# Altium footprint library SparkFun-IC-Power.PCBLIB: 41 footprints (part 2 of 3)
Each footprint in its own frame and in the unit in brackets; x right, y up, seen from the top. Pads: shape width x height; smd on the part's side, far side on the other; paste and mask are expansions set on the pad; w line width, h text height; cw(c..) or ccw(c..) is an arc to the next point about the centre after c.
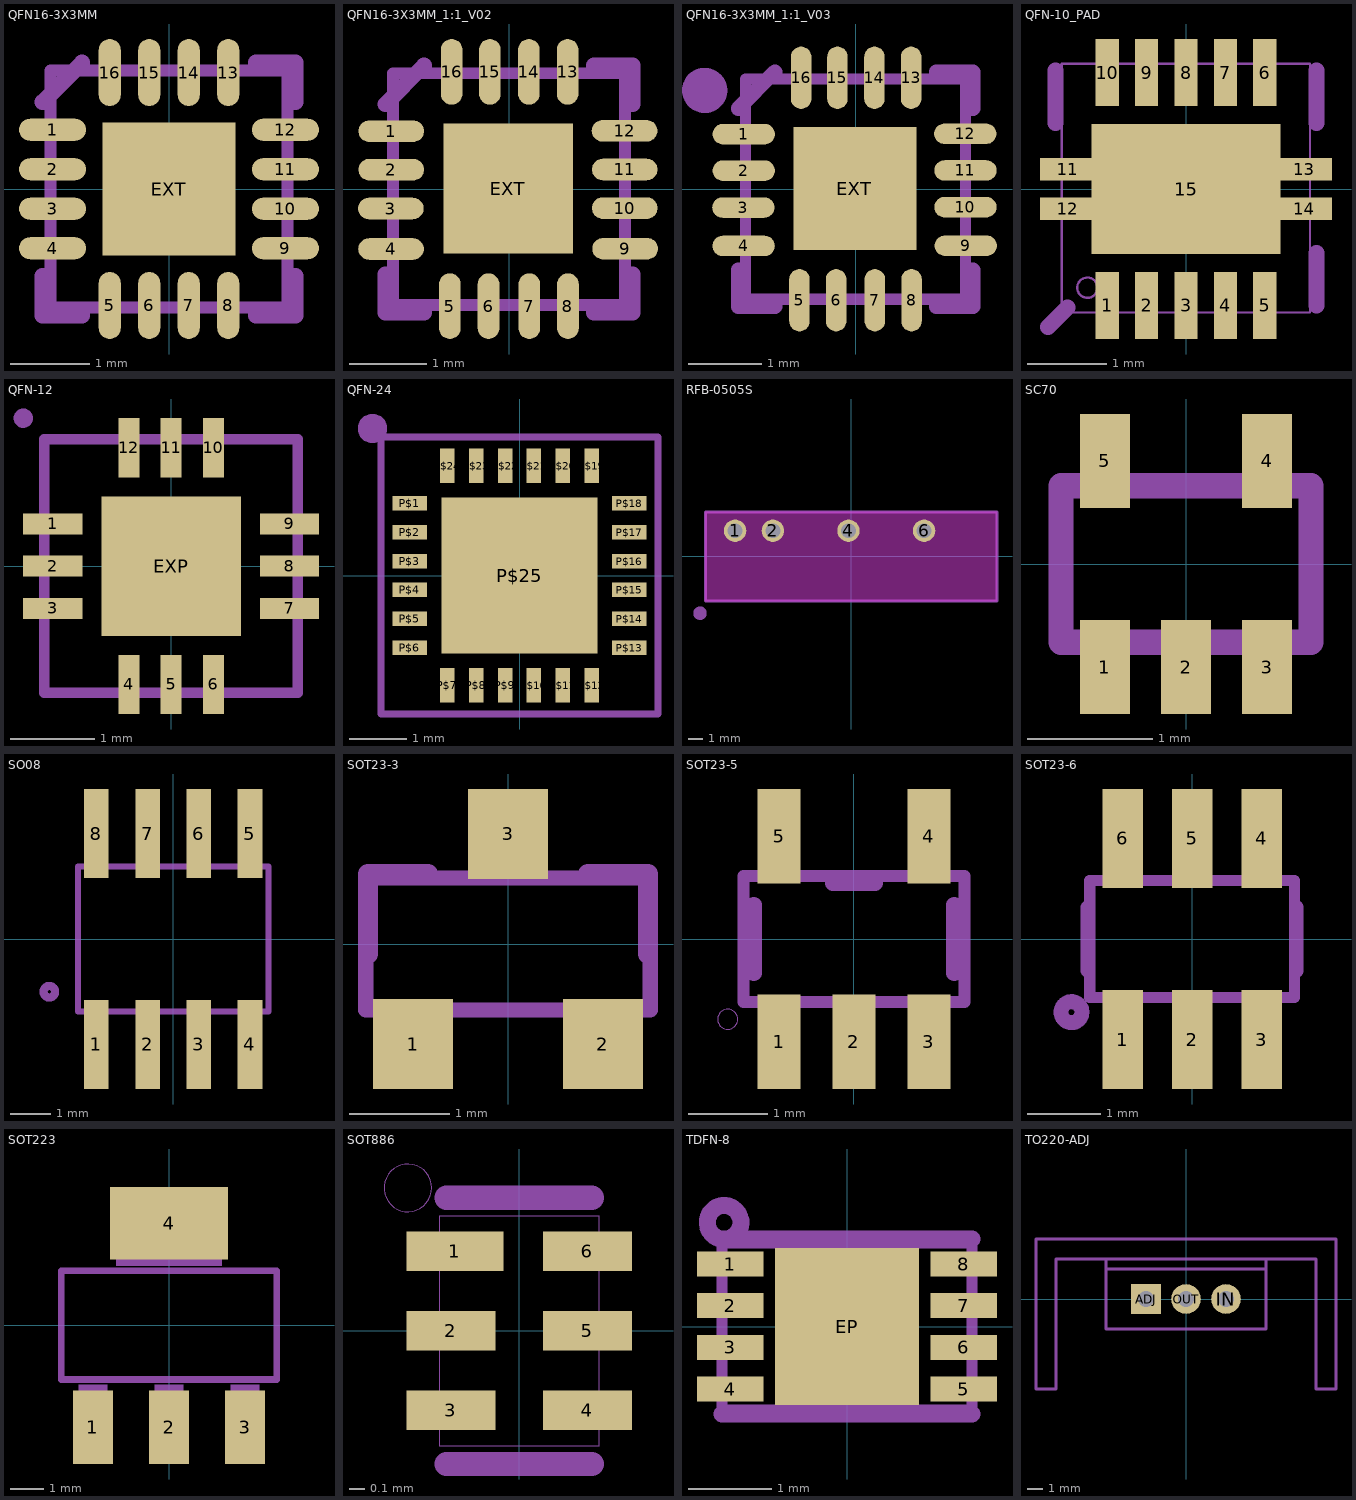
[diagram p1: the footprints below, top view; thin cyan lines are the x and y axes]

## QFN16-3X3MM [mm]
pads (17):
  rrect100% 0.85x0.28 smd paste+0: 1(-1.475,0.75) 2(-1.475,0.25) 3(-1.475,-0.25) 4(-1.475,-0.75) 9(1.475,-0.75) 10(1.475,-0.25) 11(1.475,0.25) 12(1.475,0.75)
  rrect100% 0.28x0.85 smd paste+0: 5(-0.75,-1.475) 6(-0.25,-1.475) 7(0.25,-1.475) 8(0.75,-1.475) 13(0.75,1.475) 14(0.25,1.475) 15(-0.25,1.475) 16(-0.75,1.475)
  rect 1.68x1.68 smd paste+0: EXT(0,0)
Top Paste:
  region: -0.6,0.15 -0.6,0.6 -0.15,0.6 -0.15,0.15
  region: 0.15,0.15 0.15,0.6 0.6,0.6 0.6,0.15
  region: 0.15,-0.6 0.15,-0.15 0.6,-0.15 0.6,-0.6
  region: -0.6,-0.6 -0.6,-0.15 -0.15,-0.15 -0.15,-0.6
  lines w0.203: -1.8,-0.75 -1.15,-0.75 ; -1.8,-0.25 -1.15,-0.25 ; -1.8,0.25 -1.15,0.25 ; -1.8,0.75 -1.15,0.75 ; -0.75,-1.8 -0.75,-1.15 ; -0.75,1.15 -0.75,1.8 ; -0.25,-1.8 -0.25,-1.15 ; -0.25,1.15 -0.25,1.8 ; 0.25,-1.8 0.25,-1.15 ; 0.25,1.15 0.25,1.8 ; 0.75,-1.8 0.75,-1.15 ; 0.75,1.15 0.75,1.8 ; 1.15,-0.75 1.8,-0.75 ; 1.15,-0.25 1.8,-0.25 ; 1.15,0.25 1.8,0.25 ; 1.15,0.75 1.8,0.75
tDocu:
  lines w0.152: -1.5,-1.5 -1.5,1.5 1.5,1.5 1.5,-1.5 -1.5,-1.5
tPlace:
  lines w0.203: -1.6,-1.1 -1.6,-1.6 -1.1,-1.6 ; -1.6,1.1 -1.1,1.6 ; 1.1,-1.6 1.6,-1.6 1.6,-1.1 ; 1.1,1.6 1.6,1.6 1.6,1.1

## QFN16-3X3MM_1:1_V02 [mm]
pads (17):
  rrect100% 0.85x0.28 smd paste+0: 1(-1.524,0.75) 2(-1.524,0.252) 3(-1.529,-0.25) 4(-1.527,-0.774) 9(1.503,-0.77) 10(1.498,-0.245) 11(1.498,0.255) 12(1.495,0.755)
  rrect100% 0.28x0.85 smd paste+0: 5(-0.765,-1.513) 6(-0.265,-1.513) 7(0.263,-1.513) 8(0.763,-1.513) 13(0.758,1.518) 14(0.258,1.518) 15(-0.247,1.518) 16(-0.742,1.518)
  rect 1.68x1.68 smd paste+0: EXT(-0.009,0.008)
Top Paste:
  region: -0.6,0.15 -0.6,0.6 -0.15,0.6 -0.15,0.15
  region: 0.15,0.15 0.15,0.6 0.6,0.6 0.6,0.15
  region: 0.15,-0.6 0.15,-0.15 0.6,-0.15 0.6,-0.6
  region: -0.6,-0.6 -0.6,-0.15 -0.15,-0.15 -0.15,-0.6
  lines w0.203: -1.853,-0.773 -1.203,-0.773 ; -1.853,-0.25 -1.203,-0.25 ; -1.851,0.252 -1.201,0.252 ; -1.85,0.751 -1.2,0.751 ; -0.765,-1.838 -0.765,-1.188 ; -0.742,1.193 -0.742,1.843 ; -0.265,-1.838 -0.265,-1.188 ; -0.247,1.196 -0.247,1.846 ; 0.258,1.196 0.258,1.846 ; 0.26,-1.838 0.26,-1.188 ; 0.758,1.193 0.758,1.843 ; 0.763,-1.841 0.763,-1.191 ; 1.17,-0.245 1.82,-0.245 ; 1.17,0.255 1.82,0.255 ; 1.173,0.755 1.818,0.755 ; 1.178,-0.768 1.828,-0.768
tDocu:
  lines w0.152: -1.5,-1.5 -1.5,1.5 1.5,1.5 1.5,-1.5 -1.5,-1.5
tPlace:
  lines w0.203: -1.6,-1.1 -1.6,-1.6 -1.1,-1.6 ; -1.6,1.1 -1.1,1.6 ; 1.1,-1.6 1.6,-1.6 1.6,-1.1 ; 1.1,1.6 1.6,1.6 1.6,1.1

## QFN16-3X3MM_1:1_V03 [mm]
pads (17):
  rrect100% 0.85x0.28 smd paste+0: 1(-1.524,0.75) 2(-1.524,0.252) 3(-1.529,-0.25) 4(-1.527,-0.774) 9(1.503,-0.77) 10(1.498,-0.245) 11(1.498,0.255) 12(1.495,0.755)
  rrect100% 0.28x0.85 smd paste+0: 5(-0.765,-1.513) 6(-0.265,-1.513) 7(0.263,-1.513) 8(0.763,-1.513) 13(0.758,1.518) 14(0.258,1.518) 15(-0.247,1.518) 16(-0.742,1.518)
  rect 1.68x1.68 smd paste+0: EXT(-0.009,0.008)
Top Paste:
  region: -0.305,-0.305 -0.305,0.279 0.279,0.279 0.279,-0.305
  lines w0.203: -1.853,-0.773 -1.407,-0.773 ; -1.853,-0.25 -1.406,-0.25 ; -1.851,0.252 -1.404,0.252 ; -1.85,0.751 -1.403,0.751 ; -0.765,-1.838 -0.765,-1.391 ; -0.742,1.396 -0.742,1.843 ; -0.265,-1.838 -0.265,-1.391 ; -0.247,1.399 -0.247,1.846 ; 0.258,1.399 0.258,1.846 ; 0.26,-1.838 0.26,-1.391 ; 0.758,1.396 0.758,1.843 ; 0.763,-1.841 0.763,-1.394 ; 1.399,-0.245 1.82,-0.245 ; 1.399,0.255 1.82,0.255 ; 1.402,0.755 1.818,0.755 ; 1.407,-0.768 1.828,-0.768
tDocu:
  lines w0.152: -1.5,-1.5 -1.5,1.5 1.5,1.5 1.5,-1.5 -1.5,-1.5
tPlace:
  circle w0.406: c-2.057,1.346 r0.105
  lines w0.203: -1.6,-1.1 -1.6,-1.6 -1.1,-1.6 ; -1.6,1.1 -1.1,1.6 ; 1.1,-1.6 1.6,-1.6 1.6,-1.1 ; 1.1,1.6 1.6,1.6 1.6,1.1

## QFN-10_PAD [mm]
pads (15):
  rect 0.297x0.85 smd paste+0: 1(-1,-1.475) 2(-0.5,-1.475) 3(0,-1.475) 4(0.5,-1.475) 5(1,-1.475) 6(1,1.475) 7(0.5,1.475) 8(0,1.475) 9(-0.5,1.475) 10(-1,1.475)
  rect 0.7x0.28 smd: 11(-1.5,0.25) 12(-1.5,-0.25) 13(1.5,0.25) 14(1.5,-0.25)
  rect 2.4x1.65 smd paste+0: 15(0,0)
Top Paste:
  region: -1.194,-0.432 -1.194,0.432 1.194,0.432 1.194,-0.432
  region: -1.125,1.074 -1.125,1.88 -0.876,1.88 -0.876,1.074
  region: -0.625,1.072 -0.625,1.877 -0.376,1.877 -0.376,1.072
  region: -0.625,1.072 -0.625,1.877 -0.376,1.877 -0.376,1.072
  region: -0.124,1.069 -0.124,1.875 0.124,1.875 0.124,1.069
  region: 0.376,1.072 0.376,1.877 0.625,1.877 0.625,1.072
  region: 0.879,1.074 0.879,1.88 1.128,1.88 1.128,1.074
  region: -1.125,-1.877 -1.125,-1.072 -0.876,-1.072 -0.876,-1.877
  region: -0.625,-1.88 -0.625,-1.074 -0.376,-1.074 -0.376,-1.88
  region: -0.124,-1.877 -0.124,-1.072 0.124,-1.072 0.124,-1.877
  region: 0.376,-1.872 0.376,-1.067 0.625,-1.067 0.625,-1.872
  region: 0.876,-1.877 0.876,-1.072 1.125,-1.072 1.125,-1.877
tDocu:
  circle w0.03: c-1.25,-1.25 r0.129
  lines w0.03: -1.575,-1.565 1.57,-1.565 1.57,1.585 -1.575,1.585 -1.575,-1.565
tPlace:
  lines w0.203: -1.75,-1.75 -1.5,-1.5 ; -1.651,0.838 -1.651,1.499 ; 1.651,-1.473 1.651,-0.813 ; 1.651,0.838 1.651,1.499

## QFN-12 [mm]
pads (13):
  rect 0.7x0.25 smd: 1(-1.4,0.5) 2(-1.4,0) 3(-1.4,-0.5) 7(1.4,-0.5) 8(1.4,0) 9(1.4,0.5)
  rect 0.25x0.7 smd: 4(-0.5,-1.4) 5(0,-1.4) 6(0.5,-1.4) 10(0.5,1.4) 11(0,1.4) 12(-0.5,1.4)
  rect 1.65x1.65 smd: EXP(0,0)
tPlace:
  circle w0.127: c-1.75,1.75 r0.05
  lines w0.127: -1.5,-1.5 1.5,-1.5 1.5,1.5 -1.5,1.5 -1.5,-1.5

## QFN-24 [mm]
pads (25):
  rect 0.6x0.25 smd paste+0: P$1(-1.9,1.25) P$2(-1.9,0.75) P$3(-1.9,0.25) P$4(-1.9,-0.25) P$5(-1.9,-0.75) P$6(-1.9,-1.25) P$13(1.9,-1.25) P$14(1.9,-0.75) P$15(1.9,-0.25) P$16(1.9,0.25) P$17(1.9,0.75) P$18(1.9,1.25)
  rect 0.25x0.6 smd paste+0: P$7(-1.25,-1.9) P$8(-0.75,-1.9) P$9(-0.25,-1.9) P$10(0.25,-1.9) P$11(0.75,-1.9) P$12(1.25,-1.9) P$19(1.25,1.9) P$20(0.75,1.9) P$21(0.25,1.9) P$22(-0.25,1.9) P$23(-0.75,1.9) P$24(-1.25,1.9)
  rect 2.7x2.7 smd paste+0: P$25(0,0)
Top Paste:
  region: -0.953,0.254 -0.953,1.004 -0.203,1.004 -0.203,0.254
  region: 0.203,0.254 0.203,1.004 0.953,1.004 0.953,0.254
  region: 0.203,-1.004 0.203,-0.254 0.953,-0.254 0.953,-1.004
  region: -0.953,-1.004 -0.953,-0.254 -0.203,-0.254 -0.203,-1.004
  region: -2.1,1.35 -1.7,1.35 -1.7,1.15 -2.1,1.15
  region: -2.1,0.85 -1.7,0.85 -1.7,0.65 -2.1,0.65
  region: -2.1,0.35 -1.7,0.35 -1.7,0.15 -2.1,0.15
  region: -2.1,-0.15 -1.7,-0.15 -1.7,-0.35 -2.1,-0.35
  region: -2.1,-0.65 -1.7,-0.65 -1.7,-0.85 -2.1,-0.85
  region: -2.1,-1.15 -1.7,-1.15 -1.7,-1.35 -2.1,-1.35
  region: -1.35,-2.1 -1.35,-1.7 -1.15,-1.7 -1.15,-2.1
  region: -0.85,-2.1 -0.85,-1.7 -0.65,-1.7 -0.65,-2.1
  region: -0.35,-2.1 -0.35,-1.7 -0.15,-1.7 -0.15,-2.1
  region: 0.15,-2.1 0.15,-1.7 0.35,-1.7 0.35,-2.1
  region: 0.65,-2.1 0.65,-1.7 0.85,-1.7 0.85,-2.1
  region: 1.15,-2.1 1.15,-1.7 1.35,-1.7 1.35,-2.1
  region: 2.1,-1.35 1.7,-1.35 1.7,-1.15 2.1,-1.15
  region: 2.1,-0.85 1.7,-0.85 1.7,-0.65 2.1,-0.65
  region: 2.1,-0.35 1.7,-0.35 1.7,-0.15 2.1,-0.15
  region: 2.1,0.15 1.7,0.15 1.7,0.35 2.1,0.35
  region: 2.1,0.65 1.7,0.65 1.7,0.85 2.1,0.85
  region: 2.1,1.15 1.7,1.15 1.7,1.35 2.1,1.35
  region: 1.35,2.1 1.35,1.7 1.15,1.7 1.15,2.1
  region: 0.85,2.1 0.85,1.7 0.65,1.7 0.65,2.1
  region: 0.35,2.1 0.35,1.7 0.15,1.7 0.15,2.1
  region: -0.15,2.1 -0.15,1.7 -0.35,1.7 -0.35,2.1
  region: -0.65,2.1 -0.65,1.7 -0.85,1.7 -0.85,2.1
  region: -1.15,2.1 -1.15,1.7 -1.35,1.7 -1.35,2.1
tPlace:
  region: -2.8,2.55 -2.8,2.6 -2.762,2.692 -2.692,2.762 -2.6,2.8 -2.55,2.8 -2.5,2.8 -2.408,2.762 -2.338,2.692 -2.3,2.6 -2.3,2.55 -2.3,2.5 -2.338,2.408 -2.408,2.338 -2.5,2.3 -2.55,2.3 -2.6,2.3 -2.692,2.338 -2.762,2.408 -2.8,2.5 -2.8,2.55
  lines w0.127: -2.4,-2.4 2.4,-2.4 2.4,2.4 -2.4,2.4 -2.4,-2.4

## RFB-0505S [mm]
pads (4):
  round 1.508 hole 1: 1(-7.8,1.73) 2(-5.26,1.73) 4(-0.18,1.73) 6(4.9,1.73)
Top keep-out:
  region: -9.8,-3 -9.8,3 9.8,3 9.8,-3
tPlace:
  circle w0.5: c-10.16,-3.81 r0.2
  lines w0.203: -9.8,-3 -9.8,3 9.8,3 9.8,-3 -9.8,-3

## SC70 [mm]
pads (5):
  rect 0.4x0.75 smd paste+0: 1(-0.65,-0.825) 2(0,-0.825) 3(0.65,-0.825) 4(0.65,0.825) 5(-0.65,0.825)
Top Paste:
  region: -0.85,0.45 -0.85,1.2 -0.45,1.2 -0.45,0.45
  region: 0.45,0.45 0.45,1.2 0.85,1.2 0.85,0.45
  region: -0.838,-1.168 -0.838,-0.483 -0.508,-0.483 -0.508,-1.168
  region: -0.165,-1.168 -0.165,-0.483 0.165,-0.483 0.165,-1.168
  region: 0.508,-1.168 0.508,-0.483 0.838,-0.483 0.838,-1.168
tDocu:
  lines w0.127: -1,-0.625 -1,0.625 1,0.625 1,-0.625 -1,-0.625
tPlace:
  lines w0.203: -1,-0.625 1,-0.625 1,0.625 -1,0.625 -1,-0.625

## SO08 [mil]
pads (8):
  rect 24x87 smd: 1(-75,-103) 2(-25,-103) 3(25,-103) 4(75,-103) 5(75,103) 6(25,103) 7(-25,103) 8(-75,103)
tDocu:
  region: -82,-113 -82,-73 -68,-73 -68,-113
  region: -32,-113 -32,-73 -18,-73 -18,-113
  region: 18,-113 18,-73 32,-73 32,-113
  region: 68,-113 68,-73 82,-73 82,-113
  region: -82,73 -82,113 -68,113 -68,73
  region: -32,73 -32,113 -18,113 -18,73
  region: 18,73 18,113 32,113 32,73
  region: 68,73 68,113 82,113 82,73
  lines w6: -92.99,-70.98 92.99,-70.98 ; -92.99,70.98 92.99,70.98
tPlace:
  circle w8: c-121,-51.5 r5.65
  lines w6: -92.99,-70.98 -92.99,70.98 ; 92.99,-70.98 92.99,70.98

## SOT23-3 [mil]
pads (3):
  rect 31.5x35.43 smd: 1(-37.4,-39.37) 2(37.4,-39.37) 3(0,43.31)
tDocu:
  lines w6: -56,-26 56,-26 56,26 -56,26 -56,-26
tPlace:
  lines w8: -55.12,-3.94 -55.12,27.56 -31.5,27.56 ; 31.5,27.56 55.12,27.56 55.12,-3.94

## SOT23-5 [mm]
pads (5):
  rect 0.55x1.2 smd: 1(-0.95,-1.3) 2(0,-1.3) 3(0.95,-1.3) 4(0.95,1.3) 5(-0.95,1.3)
tDocu:
  region: -1.2,-1.5 -1.2,-0.85 -0.7,-0.85 -0.7,-1.5
  region: -0.25,-1.5 -0.25,-0.85 0.25,-0.85 0.25,-1.5
  region: 0.7,-1.5 0.7,-0.85 1.2,-0.85 1.2,-1.5
  region: 0.7,0.85 0.7,1.5 1.2,1.5 1.2,0.85
  region: -1.2,0.85 -1.2,1.5 -0.7,1.5 -0.7,0.85
  lines w0.152: -1.4,-0.8 1.4,-0.8 1.4,0.8 -1.4,0.8 -1.4,-0.8
tPlace:
  circle w0: c-1.6,-1.016 r0.127
  lines w0.203: -1.27,-0.43 -1.27,0.43 ; -0.268,0.709 0.268,0.709 ; 1.27,-0.43 1.27,0.43

## SOT23-6 [mm]
pads (6):
  rect 0.55x1.35 smd: 1(-0.95,-1.375) 2(0,-1.375) 3(0.95,-1.375) 4(0.95,1.375) 5(0,1.375) 6(-0.95,1.375)
tDocu:
  region: -1.2,-1.5 -1.2,-0.85 -0.7,-0.85 -0.7,-1.5
  region: -0.25,-1.5 -0.25,-0.85 0.25,-0.85 0.25,-1.5
  region: 0.7,-1.5 0.7,-0.85 1.2,-0.85 1.2,-1.5
  region: 0.7,0.85 0.7,1.5 1.2,1.5 1.2,0.85
  region: -1.2,0.85 -1.2,1.5 -0.7,1.5 -0.7,0.85
  region: -0.25,0.85 -0.25,1.5 0.25,1.5 0.25,0.85
  lines w0.152: -1.4,-0.8 1.4,-0.8 1.4,0.8 -1.4,0.8 -1.4,-0.8
tPlace:
  circle w0.203: c-1.65,-1 r0.144
  lines w0.203: -1.422,-0.43 -1.422,0.43 ; 1.422,-0.43 1.422,0.43

## SOT223 [mil]
pads (4):
  rect 48x88 smd: 1(-91,-122) 2(0,-122) 3(91,-122)
  rect 141.73x86.61 smd: 4(0,122.01)
tDocu:
  region: -63,71 -63,144 63,144 63,71
  region: -17,-144 -17,-71 17,-71 17,-144
  region: -108,-144 -108,-71 -74,-71 -74,-144
  region: 74,-144 74,-71 108,-71 108,-144
  region: -63,71 -63,144 63,144 63,71
  region: -17,-144 -17,-71 17,-71 17,-144
  region: -108,-144 -108,-71 -74,-71 -74,-144
  region: 74,-144 74,-71 108,-71 108,-144
tPlace:
  lines w8: -129,-65 129,-65 129,65 -129,65 -129,-65

## SOT886 [mm]
pads (6):
  rect 0.61x0.25 smd: 1(-0.405,0.5)
  rect 0.56x0.25 smd: 2(-0.43,0) 3(-0.43,-0.5) 4(0.43,-0.5) 5(0.43,0) 6(0.43,0.5)
tDocu:
  region: -0.465,-0.105 -0.465,0.105 -0.155,0.105 -0.155,-0.105
  region: -0.465,-0.605 -0.465,-0.395 -0.155,-0.395 -0.155,-0.605
  region: 0.465,-0.395 0.465,-0.605 0.155,-0.605 0.155,-0.395
  region: 0.465,0.105 0.465,-0.105 0.155,-0.105 0.155,0.105
  region: 0.465,0.605 0.465,0.395 0.155,0.395 0.155,0.605
  region: -0.465,0.395 -0.465,0.605 -0.105,0.605 -0.105,0.395
  lines w0.003: -0.5,-0.725 0.5,-0.725 0.5,0.725 -0.5,0.725 -0.5,-0.725
tPlace:
  circle w0: c-0.7,0.9 r0.15
  lines w0.152: -0.457,-0.838 0.457,-0.838 ; -0.457,0.838 0.457,0.838

## TDFN-8 [mil]
pads (9):
  rect 31.5x11.81 smd paste+0 mask+0: 1(-55.12,29.53) 2(-55.12,9.84) 3(-55.12,-9.84) 4(-55.12,-29.53) 5(55.12,-29.53) 6(55.12,-9.84) 7(55.12,9.84) 8(55.12,29.53)
  rect 68.11x74.02 smd paste+0 mask+0: EP(0,0)
Top Paste:
  region: -13,-13 -13,13 13,13 13,-13
  region: -69.9,24.3 -69.9,34.7 -40.2,34.7 -40.2,24.3
  region: -70,4.5 -70,14.9 -40.3,14.9 -40.3,4.5
  region: -70,-15 -70,-4.6 -40.3,-4.6 -40.3,-15
  region: -70,-34.8 -70,-24.4 -40.3,-24.4 -40.3,-34.8
  region: 40.2,24.3 40.2,34.7 69.9,34.7 69.9,24.3
  region: 40.3,4.7 40.3,15.1 70,15.1 70,4.7
  region: 40.3,-15 40.3,-4.6 70,-4.6 70,-15
  region: 40.4,-34.7 40.4,-24.3 70.1,-24.3 70.1,-34.7
Top Solder:
  region: -70.87,23.62 -70.87,35.43 -39.37,35.43 -39.37,23.62
  region: -70.87,23.62 -70.87,35.43 -39.37,35.43 -39.37,23.62
  region: -70.87,-15.75 -70.87,-3.94 -39.37,-3.94 -39.37,-15.75
  region: -70.87,3.94 -70.87,15.75 -39.37,15.75 -39.37,3.94
  region: -70.87,-35.43 -70.87,-23.62 -39.37,-23.62 -39.37,-35.43
  region: 39.37,23.62 39.37,35.43 70.87,35.43 70.87,23.62
  region: 39.37,3.94 39.37,15.75 70.87,15.75 70.87,3.94
  region: 39.37,-15.75 39.37,-3.94 70.87,-3.94 70.87,-15.75
  region: 39.37,-35.43 39.37,-23.62 70.87,-23.62 70.87,-35.43
  region: -34.06,-37.01 -34.06,37.01 34.06,37.01 34.06,-37.01
tDocu:
  lines w5: -59.06,-39.37 -59.06,39.37 59.06,39.37 59.06,-39.37 -59.06,-39.37
tPlace:
  lines w5: -59.06,41.34 -57.09,41.34
  lines w8: -59.06,-41.34 59.06,-41.34 ; -59.06,41.34 cw(c-58.08,49.22) -57.09,41.34 59.06,41.34

## TO220-ADJ [mil]
pads (3):
  rect 74x74 / inner round 68.37 / far side rect 74x74 hole 39.37: ADJ(-100,0)
  round 74 hole 39.37: IN(100,0) OUT(0,0)
tDocu:
  lines w8: -200,100 -325,100 -325,-225 -375,-225 -375,150 375,150 375,-225 325,-225 325,100 200,100
tPlace:
  lines w8: -200,75 -200,-75 200,-75 200,75 ; -200,75 -200,100 200,100 200,75 ; -200,75 200,75